# Altium schematic symbol library simbologia.SchLib: 13 symbols
Pins are listed as number, name and electrical type; pins without a type are passive.

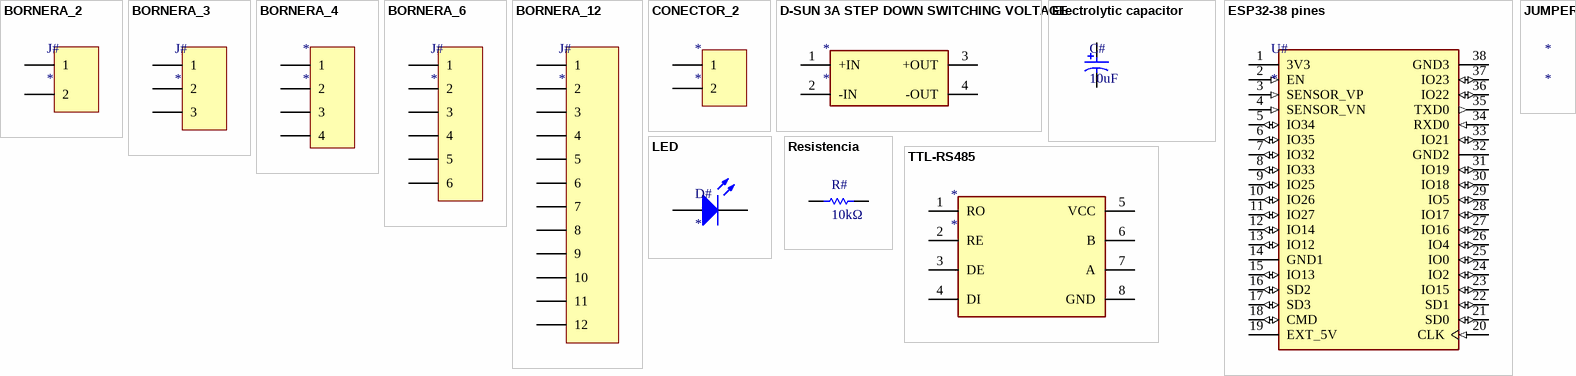
[diagram p0: symbols BORNERA_2 to TTL-RS485]

## BORNERA_2
designator J#
footprint BORNERA_2
pins: 1, 2

## BORNERA_3
designator J#
footprint BORNERA_3
pins: 1, 2, 3

## BORNERA_4
designator *
footprint BORNERA_4
pins: 1, 2, 3, 4

## BORNERA_6
designator J#
footprint BORNERA_6
pins: 1, 2, 3, 4, 5, 6

## BORNERA_12
designator J#
footprint BORNERA_12
pins: 1, 2, 3, 4, 5, 6, 7, 8, 9, 10, 11, 12

## CONECTOR_2
designator *
footprint PCBComponent_1
pins: 1, 2

## D-SUN 3A STEP DOWN SWITCHING VOLTAGE
designator *
footprint STEP_SOURCE
pins: 1 +IN (power), 2 -IN (power), 3 +OUT (power), 4 -OUT (power)

## Electrolytic capacitor
designator C#, comment 10uF
footprint FP-CAPACITOR
pins: 1, 2

## ESP32-38 pines
designator U#
footprint ESP32
pins: 1 3V3 (power), 2 EN (in), 3 SENSOR_VP (in), 4 SENSOR_VN (in), 5 IO34 (io), 6 IO35 (io), 7 IO32 (io), 8 IO33 (io), 9 IO25 (io), 10 IO26 (io), 11 IO27 (io), 12 IO14 (io), 13 IO12 (io), 14 GND1 (power), 15 IO13 (io), 16 SD2 (io), 17 SD3 (io), 18 CMD (io), 19 EXT_5V (power), 20 CLK (in), 21 SD0 (io), 22 SD1 (io), 23 IO15 (io), 24 IO2 (io), 25 IO0 (io), 26 IO4 (io), 27 IO16 (io), 28 IO17 (io), 29 IO5 (io), 30 IO18 (io), 31 IO19 (io), 32 GND2 (power), 33 IO21 (io), 34 RXD0 (in), 35 TXD0 (out), 36 IO22 (io), 37 IO23 (io), 38 GND3 (power)

## JUMPER
designator *

## LED
designator D#
footprint FP-LED
pins: 1 A, 2 K

## Resistencia
designator R#, comment 10kΩ
footprint FP-RESISTENCIA
pins: 1, 2

## TTL-RS485
designator *
footprint TTL_RS485
pins: 1 RO (power), 2 RE (power), 3 DE (power), 4 DI (power), 5 VCC (power), 6 B (power), 7 A (power), 8 GND (power)